# Altium footprint library con-faston.PCBLIB: 10 footprints
Each footprint in its own frame and in the unit in brackets; x right, y up, seen from the top. Pads: shape width x height; smd on the part's side, far side on the other; paste and mask are expansions set on the pad; w line width, h text height; cw(c..) or ccw(c..) is an arc to the next point about the centre after c.
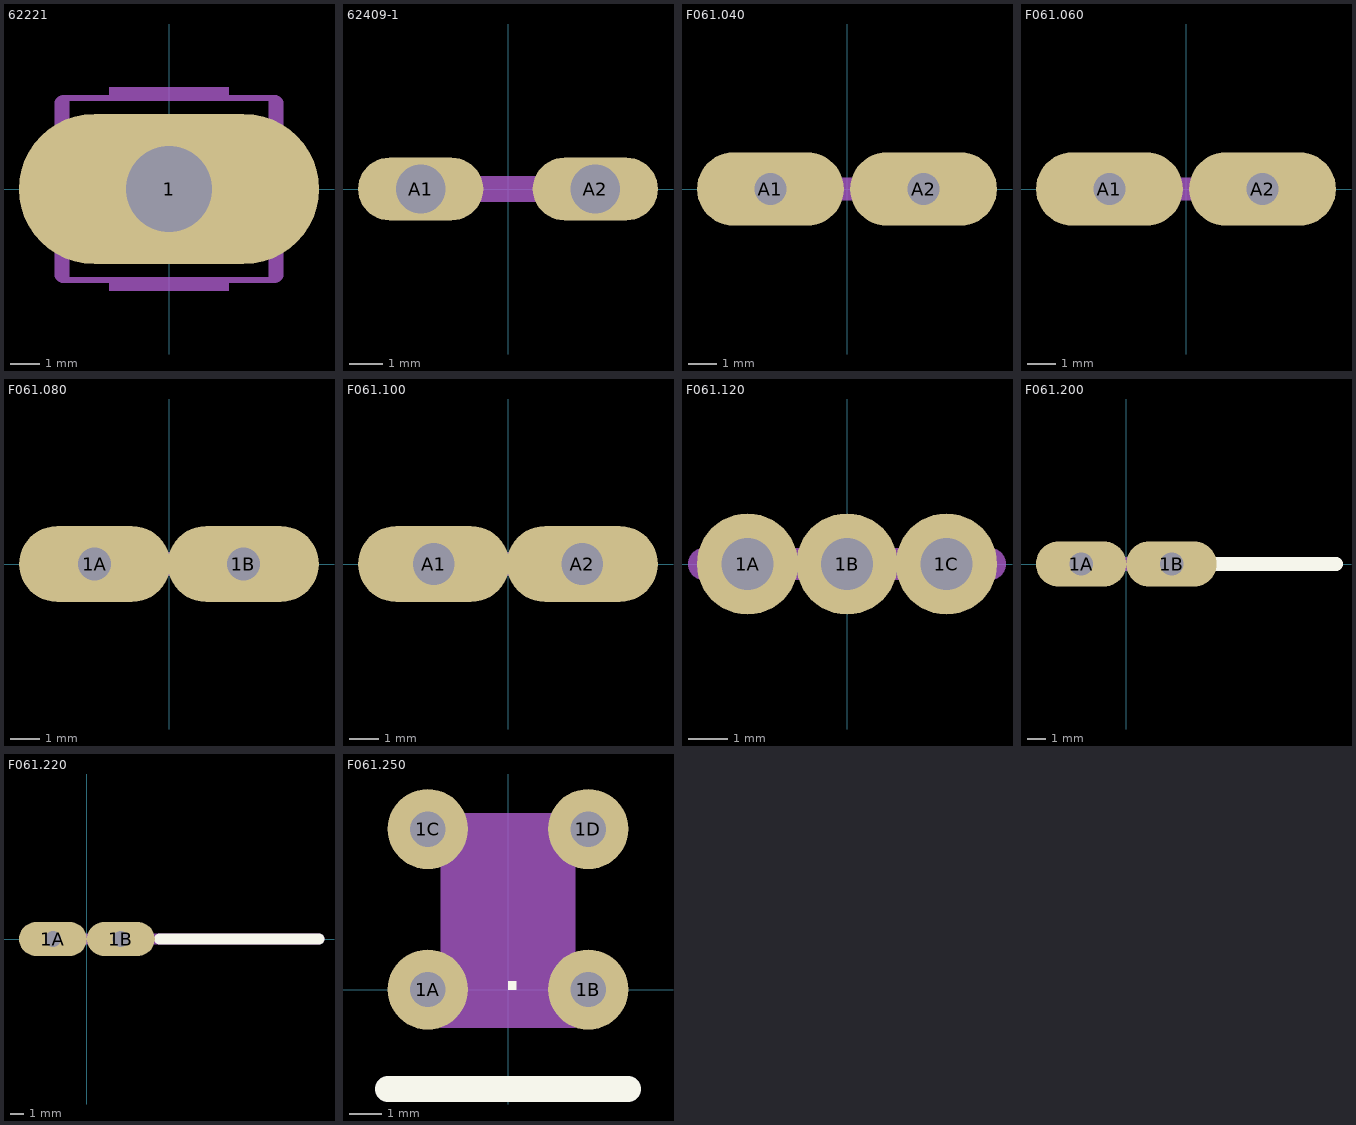
[diagram p0: the footprints below, top view; thin cyan lines are the x and y axes]

## 62221 [mil]
pads (1):
  oval 400x200 hole 115: 1(0,0)
Mechanical 11:
  lines w0: -100,-57.5 100,-57.5 100,57.5 -100,57.5 -100,-57.5
Mechanical 16:
  rectangle: -80,120 80,136
  region: 80,-120 -80,-120 -80,-136 80,-136
  lines w8: -142.72,-121.06 141.73,-121.06 ; -141.73,121.06 142.72,121.06 ; -88,-48 -88,48 88,48 88,-48 -88,-48
  lines w20: -142.5,-115 -142.5,115 ; 142.5,-115 142.5,115

## 62409-1 [mm]
pads (2):
  oval 3.8x1.9 hole 1.5: A1(-2.65,0) A2(2.65,0)
Mechanical 16:
  rectangle: -3.75,-0.4 3.75,0.4

## F061.040 [mm]
pads (2):
  oval 5.08x2.54 hole 1.1: A1(-2.65,0) A2(2.65,0)
Mechanical 16:
  lines w0.8: -3.75,0 3.75,0

## F061.060 [mm]
pads (2):
  oval 5.08x2.54 hole 1.1: A1(-2.65,0) A2(2.65,0)
Mechanical 16:
  lines w0.8: -3.75,0 3.75,0

## F061.080 [mil]
pads (2):
  oval 200x100 hole 43.31: 1A(-98.43,0) 1B(98.43,0)
Mechanical 16:
  lines w31.5: -141.73,0 141.73,0

## F061.100 [mil]
pads (2):
  oval 200x100 hole 55.12: A1(-98.43,0) A2(98.43,0)
Mechanical 16:
  lines w31.5: -141.73,0 141.73,0

## F061.120 [mil]
pads (3):
  round 100 hole 51.18: 1A(-98.43,0) 1B(0,0) 1C(98.43,0)
Mechanical 16:
  lines w31.5: -141.73,0 141.73,0

## F061.200 [mil]
pads (2):
  oval 196.86x98.43 hole 51.18: 1A(-98.43,0) 1B(98.43,0)
Top Overlay:
  lines w31.5: 179.13,0 456.69,0
Mechanical 16:
  lines w31.5: -141.73,0 179.13,0

## F061.220 [mil]
pads (2):
  oval 196.86x98.43 hole 47.24: 1A(-98.43,0) 1B(98.43,0)
Top Overlay:
  lines w31.5: 210.63,0 673.23,0
Mechanical 16:
  lines w31.5: -141.73,0 673.23,0

## F061.250 [mm]
pads (4):
  round 2.5 hole 1.1: 1A(-2.5,0) 1B(2.5,0) 1C(-2.5,5) 1D(2.5,5)
Top Overlay:
  region: 0,0 0.254,0 0.254,0.254 0,0.254
  lines w0.8: -3.75,-3.1 3.75,-3.1
Mechanical 16:
  rectangle: -3.1,-0.5 -2.1,0.5
  rectangle: 2.1,-0.5 3.1,0.5
  rectangle: -3.1,4.5 -2.1,5.5
  rectangle: 2.1,4.5 3.1,5.5
  rectangle: -2.1,-1.2 2.1,5.5